# Altium footprint library Components - 08.09.24 - 21.47.PcbLib: 1 footprints
Each footprint in its own frame and in the unit in brackets; x right, y up, seen from the top. Pads: shape width x height; smd on the part's side, far side on the other; paste and mask are expansions set on the pad; w line width, h text height; cw(c..) or ccw(c..) is an arc to the next point about the centre after c.
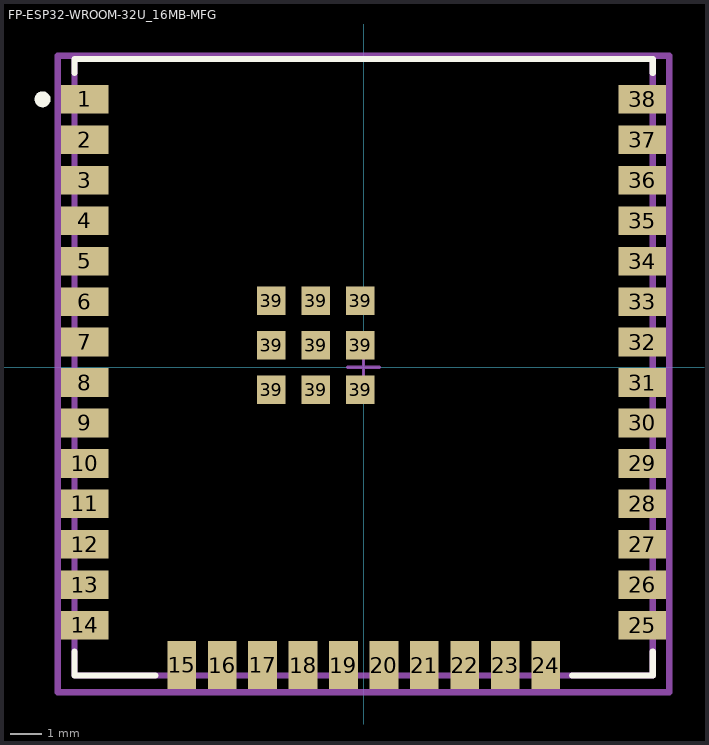
[diagram p0: the footprint, top view; thin cyan lines are the x and y axes]

## FP-ESP32-WROOM-32U_16MB-MFG [mm]
pads (47):
  rect 1.5x0.9 smd paste+0 mask+0: 1(-8.75,8.41) 2(-8.75,7.14) 3(-8.75,5.87) 4(-8.75,4.6) 5(-8.75,3.33) 6(-8.75,2.06) 7(-8.75,0.79) 8(-8.75,-0.48) 9(-8.75,-1.75) 10(-8.75,-3.02) 11(-8.75,-4.29) 12(-8.75,-5.56) 13(-8.75,-6.83) 14(-8.75,-8.1) 25(8.75,-8.1) 26(8.75,-6.83) 27(8.75,-5.56) 28(8.75,-4.29) 29(8.75,-3.02) 30(8.75,-1.75) 31(8.75,-0.48) 32(8.75,0.79) 33(8.75,2.06) 34(8.75,3.33) 35(8.75,4.6) 36(8.75,5.87) 37(8.75,7.14) 38(8.75,8.41)
  rect 0.9x1.5 smd paste+0 mask+0: 15(-5.71,-9.35) 16(-4.44,-9.35) 17(-3.17,-9.35) 18(-1.9,-9.35) 19(-0.63,-9.35) 20(0.64,-9.35) 21(1.91,-9.35) 22(3.18,-9.35) 23(4.45,-9.35) 24(5.72,-9.35)
  rect 0.9x0.9 smd paste+0 mask+0: 39(-2.9,-0.71) 39(-2.9,0.69) 39(-2.9,2.09) 39(-1.5,-0.71) 39(-1.5,0.69) 39(-1.5,2.09) 39(-0.1,-0.71) 39(-0.1,0.69) 39(-0.1,2.09)
Top Overlay:
  circle w0.25: c-10.075,8.41 r0.125
  lines w0.2: -9.075,-8.925 -9.075,-9.675 -6.535,-9.675 ; -9.075,9.235 -9.075,9.675 9.075,9.675 9.075,9.235 ; 6.545,-9.675 9.075,-9.675 9.075,-8.925
Mechanical 5:
  lines w0.2: -9.6,-10.2 9.6,-10.2 9.6,9.775 -9.6,9.775 -9.6,-10.2
  text ".Designator" at 0,-0.213 h1
Mechanical 13:
  lines w0.2: -9.075,-9.675 9.075,-9.675 9.075,9.675 -9.075,9.675 -9.075,-9.675
Mechanical 15:
  lines w0.2: -9.6,-10.2 9.6,-10.2 9.6,9.775 -9.6,9.775 -9.6,-10.2
Mechanical 16:
  lines w0.1: -0.5,0 0.5,0 ; 0,-0.5 0,0.5
3D body "UNK_Espressif_Systems_ESP32-WROOM-32U_16MB_eec.STEP": height 0.25, standoff 0, extent -9.6,-10.2 9.6,9.775